# Altium schematic symbol library DW01.SchLib: 1 symbol
Pins are listed as number, name and electrical type; pins without a type are passive.

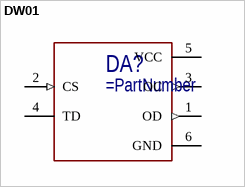
[diagram p0: symbol DW01]

## DW01
designator DA?
Защита одной ячейки Li-Ion/polimer
pins: 1 OD (out), 2 CS (in), 3 OC (out), 4 TD, 5 VCC (power), 6 GND (power)